# Altium footprint library Connectors.PcbLib: 67 footprints (part 5 of 5)
Each footprint in its own frame and in the unit in brackets; x right, y up, seen from the top. Pads: shape width x height; smd on the part's side, far side on the other; paste and mask are expansions set on the pad; w line width, h text height; cw(c..) or ccw(c..) is an arc to the next point about the centre after c.
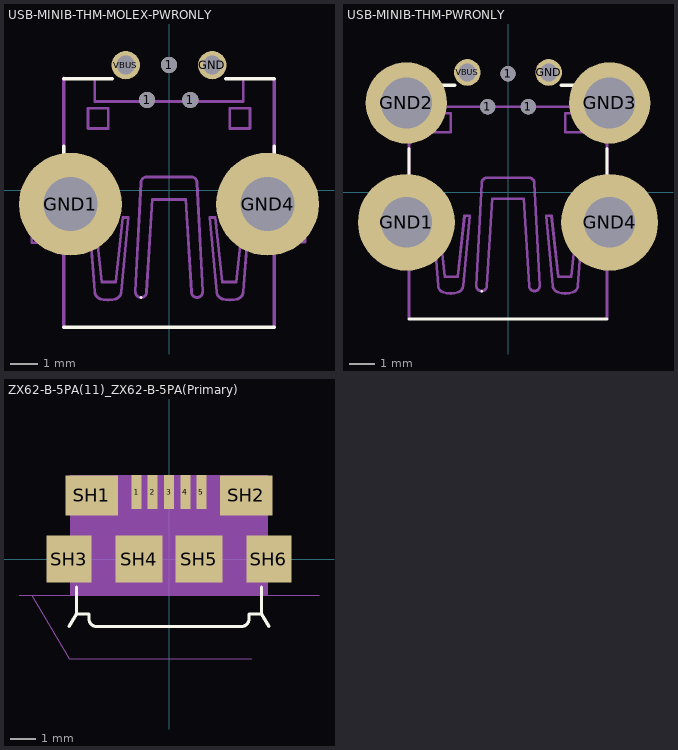
[diagram p4: the footprints below, top view; thin cyan lines are the x and y axes]

## USB-MINIB-THM-MOLEX-PWRONLY [mil]
pads (7):
  round 23.62 hole 23.62: 1(-32,132) 1(0,183) 1(31,132)
  round 41.34 hole 27.56: GND(62.99,182.68) VBUS(-62.99,182.68)
  round 150 hole 78.74: GND1(-143.7,-20.08) GND4(143.7,-20.08)
Top Overlay:
  lines w4: -40.88,-156.15 -40.87,-156.15
  lines w5: -153.54,-199.21 153.54,-199.21 ; -153.54,-41.73 -153.54,64.57 ; -153.54,162.99 -82.68,162.99 ; 82.68,162.99 153.54,162.99 ; 153.54,-18.11 153.54,64.57
Mechanical 16:
  lines w4: -200,-75.98 -200,-62.2 ccw(c-200,-50.39) -200,-38.58 -200,-22.83 ; -199.21,-76.35 -153.94,-76.35 ; -199.21,-22.08 -153.94,-22.08 ; -108.27,159.06 -108.27,129.53 108.27,129.53 108.27,159.06 ; -40.88,-156.15 cw(c-40.88,-147.97) -49.05,-147.97 -40.88,11.45 cw(c-32.23,10.97) -32.7,19.62 32.69,19.62 cw(c32.22,10.97) 40.87,11.45 49.04,-147.97 cw(c40.87,-147.97) 40.87,-156.15 cw(c40.87,-147.97) 32.69,-147.97 24.52,-13.08 -24.54,-13.08 -32.7,-147.97 cw(c-40.88,-147.97) -40.87,-156.15 ; 152.76,-75.56 198.03,-75.56 ; 152.76,-21.28 198.03,-21.28 ; 198.82,-74.8 198.82,-59.06 cw(c198.82,-47.24) 198.82,-35.43 198.82,-21.65 ; -118.11,90.16 -118.11,119.69 -88.58,119.69 -88.58,90.16 -118.11,90.16 ; -116.5,-39.65 -108.32,-39.65 -98.11,-133.67 -77.67,-133.67 -67.45,-39.65 -59.27,-39.65 -69.49,-147.97 cw(c-81.07,-147.09) -77.67,-158.19 cw(c-88.91,-121.54) -100.15,-158.19 cw(c-96.75,-147.09) -108.32,-147.97 -116.5,-39.65 ; 59.26,-39.65 67.44,-39.65 77.66,-133.67 98.1,-133.67 108.32,-39.65 116.49,-39.65 108.32,-147.97 cw(c96.74,-147.09) 100.14,-158.19 cw(c88.9,-121.54) 77.66,-158.19 cw(c81.06,-147.09) 69.48,-147.97 59.26,-39.65 ; 88.58,90.16 118.11,90.16 118.11,119.69 88.58,119.69 88.58,90.16
  lines w5: -153.54,-199.21 -153.54,-77.17 ; -153.54,-21.65 -153.54,163.39 ; 153.54,-199.21 153.54,-77.17 ; 153.54,-19.69 153.54,161.42

## USB-MINIB-THM-PWRONLY [mm]
pads (9):
  round 0.6 hole 0.6: 1(-0.8,3.37) 1(0,4.67) 1(0.8,3.37)
  round 1.05 hole 0.7: GND(1.6,4.72) VBUS(-1.6,4.72)
  round 3.81 hole 2: GND1(-4,-1.18) GND4(4,-1.18)
  round 3.2 hole 2: GND2(-4,3.52) GND3(4,3.52)
Top Overlay:
  lines w0.102: -1.038,-3.886 -1.038,-3.886
  lines w0.127: -3.9,-4.98 3.9,-4.98 ; -3.9,-0.98 -3.9,1.72 ; -3.2,4.22 -2.1,4.22 ; 2.1,4.22 3.2,4.22 ; 3.9,-0.38 3.9,1.72
Mechanical 16:
  lines w0.102: -5.08,-1.85 -5.08,-1.5 ccw(c-5.08,-1.2) -5.08,-0.9 -5.08,-0.5 ; -5.08,2.49 -5.08,2.84 ccw(c-5.08,3.14) -5.08,3.44 -5.08,3.84 ; -5.06,-1.859 -3.91,-1.859 ; -5.06,-0.481 -3.91,-0.481 ; -5.06,2.481 -3.91,2.481 ; -5.06,3.859 -3.91,3.859 ; -2.75,4.12 -2.75,3.37 2.75,3.37 2.75,4.12 ; -1.038,-3.886 cw(c-1.038,-3.679) -1.246,-3.678 -1.038,0.371 cw(c-0.819,0.359) -0.831,0.578 0.83,0.578 cw(c0.818,0.359) 1.038,0.371 1.246,-3.678 cw(c1.038,-3.679) 1.038,-3.886 cw(c1.038,-3.678) 0.83,-3.678 0.623,-0.252 -0.623,-0.252 -0.831,-3.678 cw(c-1.038,-3.679) -1.038,-3.886 ; 3.88,-1.839 5.03,-1.839 ; 3.88,-0.461 5.03,-0.461 ; 3.88,2.501 5.03,2.501 ; 3.88,3.879 5.03,3.879 ; 5.05,-1.82 5.05,-1.42 cw(c5.05,-1.12) 5.05,-0.82 5.05,-0.47 ; 5.05,2.52 5.05,2.92 cw(c5.05,3.22) 5.05,3.52 5.05,3.87 ; -3,2.37 -3,3.12 -2.25,3.12 -2.25,2.37 -3,2.37 ; -2.959,-0.927 -2.751,-0.927 -2.492,-3.315 -1.973,-3.315 -1.713,-0.927 -1.505,-0.927 -1.765,-3.678 cw(c-2.059,-3.656) -1.973,-3.938 cw(c-2.258,-3.007) -2.544,-3.938 cw(c-2.457,-3.656) -2.751,-3.678 -2.959,-0.927 ; 1.505,-0.927 1.713,-0.927 1.973,-3.315 2.492,-3.315 2.751,-0.927 2.959,-0.927 2.751,-3.678 cw(c2.457,-3.656) 2.544,-3.938 cw(c2.258,-3.007) 1.973,-3.938 cw(c2.059,-3.656) 1.765,-3.678 1.505,-0.927 ; 2.25,2.37 3,2.37 3,3.12 2.25,3.12 2.25,2.37
  lines w0.127: -3.9,-4.98 -3.9,-1.88 ; -3.9,-0.47 -3.9,2.43 ; -3.9,3.87 -3.9,4.22 ; 3.9,-4.98 3.9,-1.88 ; 3.9,-0.42 3.9,2.48 ; 3.9,3.92 3.9,4.22

## ZX62-B-5PA(11)_ZX62-B-5PA(Primary) [mm]
pads (11):
  rect 0.4x1.35 smd: 1(-1.3,2.675) 2(-0.65,2.675) 3(0,2.675) 4(0.65,2.675) 5(1.3,2.675)
  rect 2.1x1.6 smd: SH1(-3.1,2.55) SH2(3.1,2.55)
  rect 1.8x1.9 smd: SH3(-4,0) SH6(4,0)
  rect 1.9x1.9 smd: SH4(-1.2,0) SH5(1.2,0)
Top Overlay:
  lines w0.127: -4,-2.7 -3.7,-2.2 ; -3.7,-1.13 -3.7,-2.2 ; 3.7,-1.13 3.7,-2.2 ; 4,-2.7 3.7,-2.2 ; -3.7,-2.2 -3.2,-2.2 -3.2,-2.4 ccw(c-2.9,-2.4) -2.9,-2.7 2.9,-2.7 ccw(c2.9,-2.4) 3.2,-2.4 3.2,-2.2 3.7,-2.2
Mechanical 1:
  region: -3.955,3.35 3.95,3.35 3.95,-1.452 -3.955,-1.452
  lines w0: -6,-1.45 -5.5,-1.45 ; 3.3,-4 -4,-4 -5.5,-1.45 ; 6,-1.45 -5.5,-1.45
  lines w0.127: -3.7,-1.1 -3.7,1.1 ; -3.7,1.6 -3.7,2.9 3.7,2.9 3.7,1.6 ; 3.7,-1.1 3.7,1.1
  text "PCB Edge" at -4.01,-4.26 h1.88